# Altium schematic symbol library RFIDSchematicLibrary.SchLib: 20 symbols
Pins are listed as number, name and electrical type; pins without a type are passive.

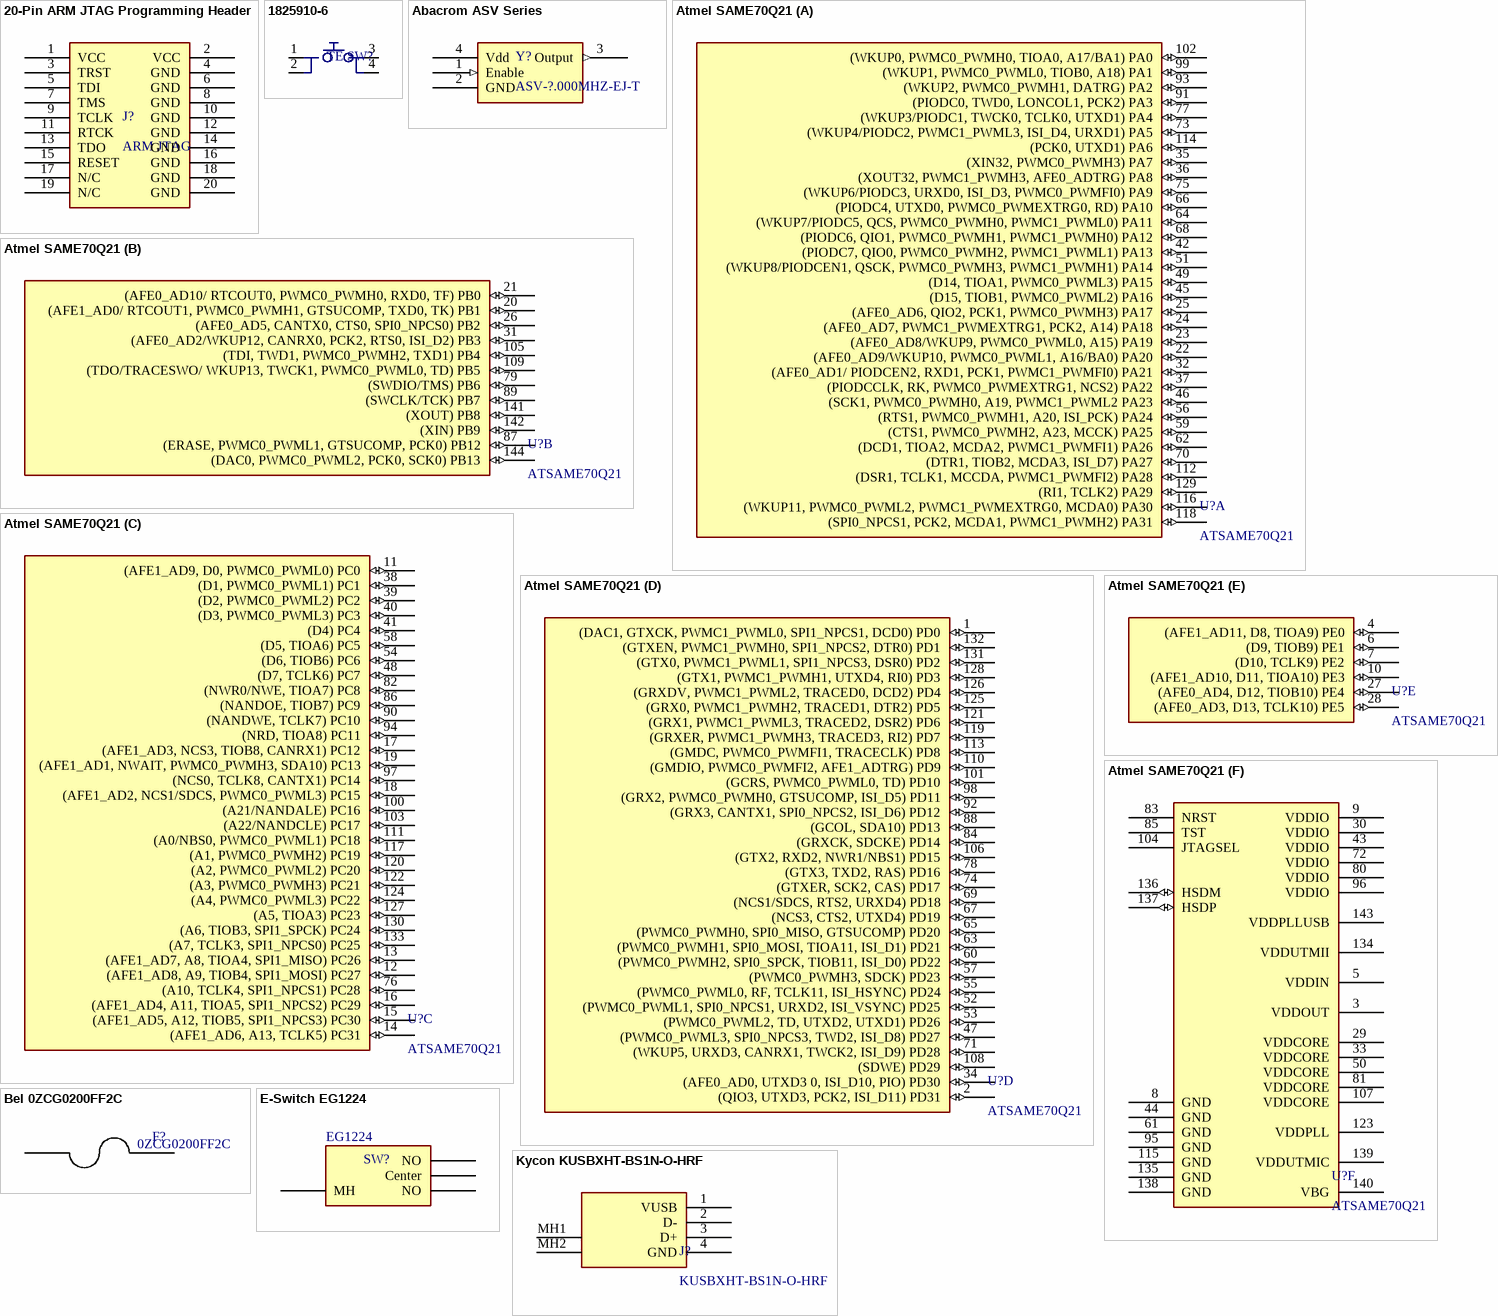
[diagram p0: symbols 20-Pin ARM JTAG Programming Header to Kycon KUSBXHT-BS1N-O-HRF]

## 20-Pin ARM JTAG Programming Header
designator J?, comment ARM JTAG
Standard 20-Pin Pinout; Manufacturer: 3M; Manufacturer Part Number: N2520-6002-UB; Connector Type: Header, Shrouded; Number of Positions: 20; Number of Positions Loaded: All; Pitch: 0.100" (2.54mm); Supplier 1: Digi-Key; RoHS: RoHS Compliant; Category: Connectors, Interconnects; Stock 1: 0; Pricing 1: 1008=2.059 (USD); Packaging: Bulk; Contact Type: Male Pin; Number of Rows: 2; Row Spacing: 0.100" (2.54mm); Contact Mating Length: 0.243" (6.17mm); Mounting Type: Through Hole; Termination: Solder; Fastening Type: -; Features: -; Contact Finish: Gold; Contact Finish Thickness: 30µin (0.76µm); Color: Black; ComponentLink1URL: http://multimedia.3m.com/mws/mediawebserver?66666UuZjcFSLXTtMXM6MxfcEVuQEcuZgVs6EVs6E666666--; ComponentLink1Description: http://multimedia.3m.com/mws/mediawebserver?66666UuZjcFSLXTtMXM6MxfcEVuQEcuZgVs6EVs6E666666--
footprint 3M 2520-6002UB (SHROUDED HEADER 20 POS STRAIGHT)
pins: 1 VCC, 2 VCC, 3 TRST, 4 GND, 5 TDI, 6 GND, 7 TMS, 8 GND, 9 TCLK, 10 GND, 11 RTCK, 12 GND, 13 TDO, 14 GND, 15 RESET, 16 GND, 17 N/C, 18 GND, 19 N/C, 20 GND

## 1825910-6
designator TE SW?  (value not drawn)
SWITCH TACTILE SPST-NO 0.05A 24V; Manufacturer: TE Connectivity Alcoswitch Switches; Switch Function: Off-Mom; Contact Rating @ Voltage: 0.05A @ 24VDC; Actuator Type: Standard; Actuator Height off PCB, from Pins: 5.00mm; Actuator Orientation: Top Actuated; Outline: 6.00mm x 6.00mm; Illumination: Non-Illuminated; Operating Force: 160gf; Actuator Material: Polybutylene Terephthalate (PBT); Switch Travel: 0.25mm; Mechanical Life: 100,000 Cycles; Supplier 1: Digi-Key; Manufacturer Part Number: 1825910-6; RoHS: RoHS Compliant; Category: Switches; Stock 1: 68158; Pricing 1: 1=0.11, 25=0.1012, 50=0.0912, 100=0.0869, 250=0.08028, 500=0.07698, 1000=0.06268, 2000=0.05609, 5000=0.05278 (USD); Packaging: Bulk; Circuit: SPST-NO; Mounting Type: Through Hole; Termination Style: PC Pin; Illumination Voltage (Nominal): -; Illumination Type, Color: -; Ingress Protection: -; Features: -; Operating Temperature: -35°C ~ 85°C; ComponentLink1URL: http://www.te.com/commerce/DocumentDelivery/DDEController?Action=srchrtrv&DocNm=1825910&DocType=Customer+Drawing&DocLang=English; ComponentLink1Description: http://www.te.com/commerce/DocumentDelivery/DDEController?Action=srchrtrv&DocNm=1825910&DocType=Customer+Drawing&DocLang=English
footprint TE 1825910-6 (SWITCH TACTILE SPST-NO 0.05A 24V)
pins: 1, 2, 3, 4

## Abacrom ASV Series
designator Y?, comment ASV-?.000MHZ-EJ-T
OSC XO X.000MHZ HCMOS SMD
footprint Abracon ASV XO (OSCILLATOR 16.000MHZ 3.3V SMD)
footprint Abracon ASV XO (OSCILLATOR 16.000MHZ 3.3V SMD)
pins: 1 Enable (in), 2 GND (power), 3 Output (out), 4 Vdd (power)

## Atmel SAME70Q21
designator U?, comment ATSAME70Q21
IC MCU 32BIT 2048KB FLASH; Manufacturer: Atmel; Manufacturer Part Number: ATSAME70Q21A-AN; Core Processor: ARM® Cortex®-M7; Core Size: 32-Bit; Speed: 300MHz; Connectivity: CAN, EBI/EMI, Ethernet, I²C, IrDA, LIN, MMC/SD/SDIO, SPI, UART/USART, USB; Peripherals: Brown-out Detect/Reset, DMA, I²S, POR, PWM, WDT; Number of I/O: 114; Program Memory Size: 2MB (2M x 8); RAM Size: 384K x 8; Voltage - Supply (Vcc/Vdd): 1.62 V ~ 3.6 V; Data Converters: A/D 24x12b, D/A 2x12b; Oscillator Type: Internal; Supplier 1: Digi-Key; RoHS: RoHS Compliant; Category: Integrated Circuits (ICs); Stock 1: 346; Pricing 1: 1=19.29, 10=17.532, 100=14.9022, 250=13.58732, 500=12.7107, 1000=12.175 (USD); Packaging: Tray; Program Memory Type: FLASH; EEPROM Size: -; Operating Temperature: -40°C ~ 105°C; Package / Case: 144-LQFP; Supplier Device Package: 144-LQFP (20x20); ComponentLink1URL: http://www.atmel.com/Images/Atmel-11296-32-bit-Cortex-M7-Microcontroller-SAM-E70Q-SAM-E70N-SAM-E70J_Datasheet.pdf; ComponentLink1Description: http://www.atmel.com/Images/Atmel-11296-32-bit-Cortex-M7-Microcontroller-SAM-E70Q-SAM-E70N-SAM-E70J_Datasheet.pdf
footprint Atmel 144AA_M (Thin QFP, 144-Leads, Body 20x20mm, Pitch 0.5mm, IPC Low Density)
part A pins: 22 (AFE0_AD9/WKUP10, PWMC0_PWML1, A16/BA0) PA20 (io), 23 (AFE0_AD8/WKUP9, PWMC0_PWML0, A15) PA19 (io), 24 (AFE0_AD7, PWMC1_PWMEXTRG1, PCK2, A14) PA18 (io), 25 (AFE0_AD6, QIO2, PCK1, PWMC0_PWMH3) PA17 (io), 32 (AFE0_AD1/ PIODCEN2, RXD1, PCK1, PWMC1_PWMFI0) PA21 (io), 35 (XIN32, PWMC0_PWMH3) PA7 (io), 36 (XOUT32, PWMC1_PWMH3, AFE0_ADTRG) PA8 (io), 37 (PIODCCLK, RK, PWMC0_PWMEXTRG1, NCS2) PA22 (io), 42 (PIODC7, QIO0, PWMC0_PWMH2, PWMC1_PWML1) PA13 (io), 45 (D15, TIOB1, PWMC0_PWML2) PA16 (io), 46 (SCK1, PWMC0_PWMH0, A19, PWMC1_PWML2 PA23 (io), 49 (D14, TIOA1, PWMC0_PWML3) PA15 (io), 51 (WKUP8/PIODCEN1, QSCK, PWMC0_PWMH3, PWMC1_PWMH1) PA14 (io), 56 (RTS1, PWMC0_PWMH1, A20, ISI_PCK) PA24 (io), 59 (CTS1, PWMC0_PWMH2, A23, MCCK) PA25 (io), 62 (DCD1, TIOA2, MCDA2, PWMC1_PWMFI1) PA26 (io), 64 (WKUP7/PIODC5, QCS, PWMC0_PWMH0, PWMC1_PWML0) PA11 (io), 66 (PIODC4, UTXD0, PWMC0_PWMEXTRG0, RD) PA10 (io), 68 (PIODC6, QIO1, PWMC0_PWMH1, PWMC1_PWMH0) PA12 (io), 70 (DTR1, TIOB2, MCDA3, ISI_D7) PA27 (io), 73 (WKUP4/PIODC2, PWMC1_PWML3, ISI_D4, URXD1) PA5 (io), 75 (WKUP6/PIODC3, URXD0, ISI_D3, PWMC0_PWMFI0) PA9 (io), 77 (WKUP3/PIODC1, TWCK0, TCLK0, UTXD1) PA4 (io), 91 (PIODC0, TWD0, LONCOL1, PCK2) PA3 (io), 93 (WKUP2, PWMC0_PWMH1, DATRG) PA2 (io), 99 (WKUP1, PWMC0_PWML0, TIOB0, A18) PA1 (io), 102 (WKUP0, PWMC0_PWMH0, TIOA0, A17/BA1) PA0 (io), 112 (DSR1, TCLK1, MCCDA, PWMC1_PWMFI2) PA28 (io), 114 (PCK0, UTXD1) PA6 (io), 116 (WKUP11, PWMC0_PWML2, PWMC1_PWMEXTRG0, MCDA0) PA30 (io), 118 (SPI0_NPCS1, PCK2, MCDA1, PWMC1_PWMH2) PA31 (io), 129 (RI1, TCLK2) PA29 (io)
part B pins: 20 (AFE1_AD0/ RTCOUT1, PWMC0_PWMH1, GTSUCOMP, TXD0, TK) PB1 (io), 21 (AFE0_AD10/ RTCOUT0, PWMC0_PWMH0, RXD0, TF) PB0 (io), 26 (AFE0_AD5, CANTX0, CTS0, SPI0_NPCS0) PB2 (io), 31 (AFE0_AD2/WKUP12, CANRX0, PCK2, RTS0, ISI_D2) PB3 (io), 79 (SWDIO/TMS) PB6 (io), 87 (ERASE, PWMC0_PWML1, GTSUCOMP, PCK0) PB12 (io), 89 (SWCLK/TCK) PB7 (io), 105 (TDI, TWD1, PWMC0_PWMH2, TXD1) PB4 (io), 109 (TDO/TRACESWO/ WKUP13, TWCK1, PWMC0_PWML0, TD) PB5 (io), 141 (XOUT) PB8 (io), 142 (XIN) PB9 (io), 144 (DAC0, PWMC0_PWML2, PCK0, SCK0) PB13 (io)
part C pins: 11 (AFE1_AD9, D0, PWMC0_PWML0) PC0 (io), 12 (AFE1_AD8, A9, TIOB4, SPI1_MOSI) PC27 (io), 13 (AFE1_AD7, A8, TIOA4, SPI1_MISO) PC26 (io), 14 (AFE1_AD6, A13, TCLK5) PC31 (io), 15 (AFE1_AD5, A12, TIOB5, SPI1_NPCS3) PC30 (io), 16 (AFE1_AD4, A11, TIOA5, SPI1_NPCS2) PC29 (io), 17 (AFE1_AD3, NCS3, TIOB8, CANRX1) PC12 (io), 18 (AFE1_AD2, NCS1/SDCS, PWMC0_PWML3) PC15 (io), 19 (AFE1_AD1, NWAIT, PWMC0_PWMH3, SDA10) PC13 (io), 38 (D1, PWMC0_PWML1) PC1 (io), 39 (D2, PWMC0_PWML2) PC2 (io), 40 (D3, PWMC0_PWML3) PC3 (io), 41 (D4) PC4 (io), 48 (D7, TCLK6) PC7 (io), 54 (D6, TIOB6) PC6 (io), 58 (D5, TIOA6) PC5 (io), 76 (A10, TCLK4, SPI1_NPCS1) PC28 (io), 82 (NWR0/NWE, TIOA7) PC8 (io), 86 (NANDOE, TIOB7) PC9 (io), 90 (NANDWE, TCLK7) PC10 (io), 94 (NRD, TIOA8) PC11 (io), 97 (NCS0, TCLK8, CANTX1) PC14 (io), 100 (A21/NANDALE) PC16 (io), 103 (A22/NANDCLE) PC17 (io), 111 (A0/NBS0, PWMC0_PWML1) PC18 (io), 117 (A1, PWMC0_PWMH2) PC19 (io), 120 (A2, PWMC0_PWML2) PC20 (io), 122 (A3, PWMC0_PWMH3) PC21 (io), 124 (A4, PWMC0_PWML3) PC22 (io), 127 (A5, TIOA3) PC23 (io), 130 (A6, TIOB3, SPI1_SPCK) PC24 (io), 133 (A7, TCLK3, SPI1_NPCS0) PC25 (io)
part D pins: 1 (DAC1, GTXCK, PWMC1_PWML0, SPI1_NPCS1, DCD0) PD0 (io), 2 (QIO3, UTXD3, PCK2, ISI_D11) PD31 (io), 34 (AFE0_AD0, UTXD3 0, ISI_D10, PIO) PD30 (io), 47 (PWMC0_PWML3, SPI0_NPCS3, TWD2, ISI_D8) PD27 (io), 52 (PWMC0_PWML1, SPI0_NPCS1, URXD2, ISI_VSYNC) PD25 (io), 53 (PWMC0_PWML2, TD, UTXD2, UTXD1) PD26 (io), 55 (PWMC0_PWML0, RF, TCLK11, ISI_HSYNC) PD24 (io), 57 (PWMC0_PWMH3, SDCK) PD23 (io), 60 (PWMC0_PWMH2, SPI0_SPCK, TIOB11, ISI_D0) PD22 (io), 63 (PWMC0_PWMH1, SPI0_MOSI, TIOA11, ISI_D1) PD21 (io), 65 (PWMC0_PWMH0, SPI0_MISO, GTSUCOMP) PD20 (io), 67 (NCS3, CTS2, UTXD4) PD19 (io), 69 (NCS1/SDCS, RTS2, URXD4) PD18 (io), 71 (WKUP5, URXD3, CANRX1, TWCK2, ISI_D9) PD28 (io), 74 (GTXER, SCK2, CAS) PD17 (io), 78 (GTX3, TXD2, RAS) PD16 (io), 84 (GRXCK, SDCKE) PD14 (io), 88 (GCOL, SDA10) PD13 (io), 92 (GRX3, CANTX1, SPI0_NPCS2, ISI_D6) PD12 (io), 98 (GRX2, PWMC0_PWMH0, GTSUCOMP, ISI_D5) PD11 (io), 101 (GCRS, PWMC0_PWML0, TD) PD10 (io), 106 (GTX2, RXD2, NWR1/NBS1) PD15 (io), 108 (SDWE) PD29 (io), 110 (GMDIO, PWMC0_PWMFI2, AFE1_ADTRG) PD9 (io), 113 (GMDC, PWMC0_PWMFI1, TRACECLK) PD8 (io), 119 (GRXER, PWMC1_PWMH3, TRACED3, RI2) PD7 (io), 121 (GRX1, PWMC1_PWML3, TRACED2, DSR2) PD6 (io), 125 (GRX0, PWMC1_PWMH2, TRACED1, DTR2) PD5 (io), 126 (GRXDV, PWMC1_PWML2, TRACED0, DCD2) PD4 (io), 128 (GTX1, PWMC1_PWMH1, UTXD4, RI0) PD3 (io), 131 (GTX0, PWMC1_PWML1, SPI1_NPCS3, DSR0) PD2 (io), 132 (GTXEN, PWMC1_PWMH0, SPI1_NPCS2, DTR0) PD1 (io)
part E pins: 4 (AFE1_AD11, D8, TIOA9) PE0 (io), 6 (D9, TIOB9) PE1 (io), 7 (D10, TCLK9) PE2 (io), 10 (AFE1_AD10, D11, TIOA10) PE3 (io), 27 (AFE0_AD4, D12, TIOB10) PE4 (io), 28 (AFE0_AD3, D13, TCLK10) PE5 (io)
part F pins: 3 VDDOUT (power), 5 VDDIN (power), 8 GND (power), 9 VDDIO (power), 29 VDDCORE (power), 30 VDDIO (power), 33 VDDCORE (power), 43 VDDIO (power), 44 GND (power), 50 VDDCORE (power), 61 GND (power), 72 VDDIO (power), 80 VDDIO (power), 81 VDDCORE (power), 83 NRST (power), 85 TST (power), 95 GND (power), 96 VDDIO (power), 104 JTAGSEL (power), 107 VDDCORE (power), 115 GND (power), 123 VDDPLL (power), 134 VDDUTMII (power), 135 GND (power), 136 HSDM (io), 137 HSDP (io), 138 GND (power), 139 VDDUTMIC (power), 140 VBG (power), 143 VDDPLLUSB (power)

## Bel 0ZCG0200FF2C
designator F?  Manufacturer Part Number: 0ZCG0200FF2C  (hidden comment: *)
PTC RESTTBLE 2.0A 8V CHIP 1812; Manufacturer: Bel Fuse Inc.; Current - Max: 100A; Current - Hold (Ih) (Max): 2A; Current - Trip (It): 3.5A; R Min/Max: 0.020 ~ 0.070 Ohm; Time to Trip: 2s; Supplier 1: Digi-Key; RoHS: RoHS Compliant; Category: Circuit Protection; Stock 1: 4721; Pricing 1: 1=0.18, 10=0.169, 25=0.156, 100=0.1401, 250=0.12476, 500=0.10396, 1000=0.09851 (USD); Packaging: Cut Tape (CT); Voltage - Max: 8V; Package / Case: 1812 (4532 Metric), Concave; ComponentLink1URL: http://www.belfuse.com/pdfs/0ZCG.pdf; ComponentLink1Description: http://www.belfuse.com/pdfs/0ZCG.pdf; Supplier Part Number 1: 507-1777-1-ND
footprint C1812(4532)_NP_med (Chip Capacitor, 2-Leads, Body 4.5x3.2mm, IPC Medium Density)
pins: 1, 2

## E-Switch EG1224
designator SW?  Manufacturer Part Number: EG1224  (hidden comment: E-Switch EG1224)
SWITCH SLIDE SPDT 500MA 15V; Contact Timing: Non-Shorting (BBM); Switch Function: On-On; Current Rating: 500mA (DC); Actuator Type: Standard; Actuator Length: 8.50mm; Switch Travel: 4.00mm; Operating Force: 250gf; Supplier 1: Digi-Key; Manufacturer: E-Switch; RoHS: RoHS Compliant; Category: Switches; Stock 1: 3595; Pricing 1: 1=0.73, 10=0.698, 25=0.684, 50=0.6112, 100=0.582, 250=0.56744, 500=0.48016, 1000=0.4656 (USD); Packaging: Bulk; Circuit: SPDT; Voltage Rating - AC: -; Voltage Rating - DC: 15V; Contact Material: Copper Alloy; Contact Finish: Silver; Mounting Type: Through Hole, Right Angle; Termination Style: PC Pin; Features: -; Actuator Material: -; Operating Temperature: -20°C ~ 70°C; Mechanical Life: -; Electrical Life: -; ComponentLink1URL: http://spec_sheets.e-switch.com/specs/P040042.pdf; ComponentLink1Description: http://spec_sheets.e-switch.com/specs/P040042.pdf; Supplier Part Number 1: EG2585-ND
footprint E-Switch EG1224 (SWITCH SLIDE SPDT 500MA 15V)
pins: 1 NO, 2 Center, 3 NO, 4 MH

## Kycon KUSBXHT-BS1N-O-HRF
designator J?, comment KUSBXHT-BS1N-O-HRF
TYPE B ORANGE HIGH TEMP/RETENTION; Manufacturer: Kycon; Connector Type: USB Type B Receptacle; Current Rating: 1 A; Gender: Female; Mounting Angle: Right; Number of Contacts: 4 Contact; Voltage Rating: 30 VAC; Number of Ports: 1 Port; Insulation Resistance: 1000 MOhms; Supplier 1: Mouser; Manufacturer Part Number: KUSBXHT-BS1N-O-HRF; RoHS: RoHS Compliant; Category: USB Connectors; Stock 1: 2882; Pricing 1: 1=2.06, 25=1.73, 100=1.51, 500=1.34, 1000=1.20, 5000=1.11, 10000=1.02 (USD); Color: Orange; Contact Plating: Gold; Operating Temperature Range: - 25 C to + 80 C; Packaging: Tray; Product: USB Type B Connectors; Series: KUSBXHT; Termination Style: Solder; Brand: Kycon; Contact Material: Phosphor Bronze; Flammability Rating: UL 94 V-0; Insulator Color: Orange; Product Category: USB Connectors; Standard: USB; Standard Pack Qty: 36; RoHS - Mouser: Y; Minimum Order Quantity: 1; Reeling: False; ComponentLink1URL: http://www.mouser.com/ds/2/222/KUSBX-371999.pdf; ComponentLink1Description: http://www.mouser.com/ds/2/222/KUSBX-371999.pdf
footprint Kycon KUSBXHT-BS1N-O-HRF (CONN USB RECEPT R/A TYPE B 4POS)
pins: 1 VUSB, 2 D-, 3 D+, 4 GND, MH1, MH2

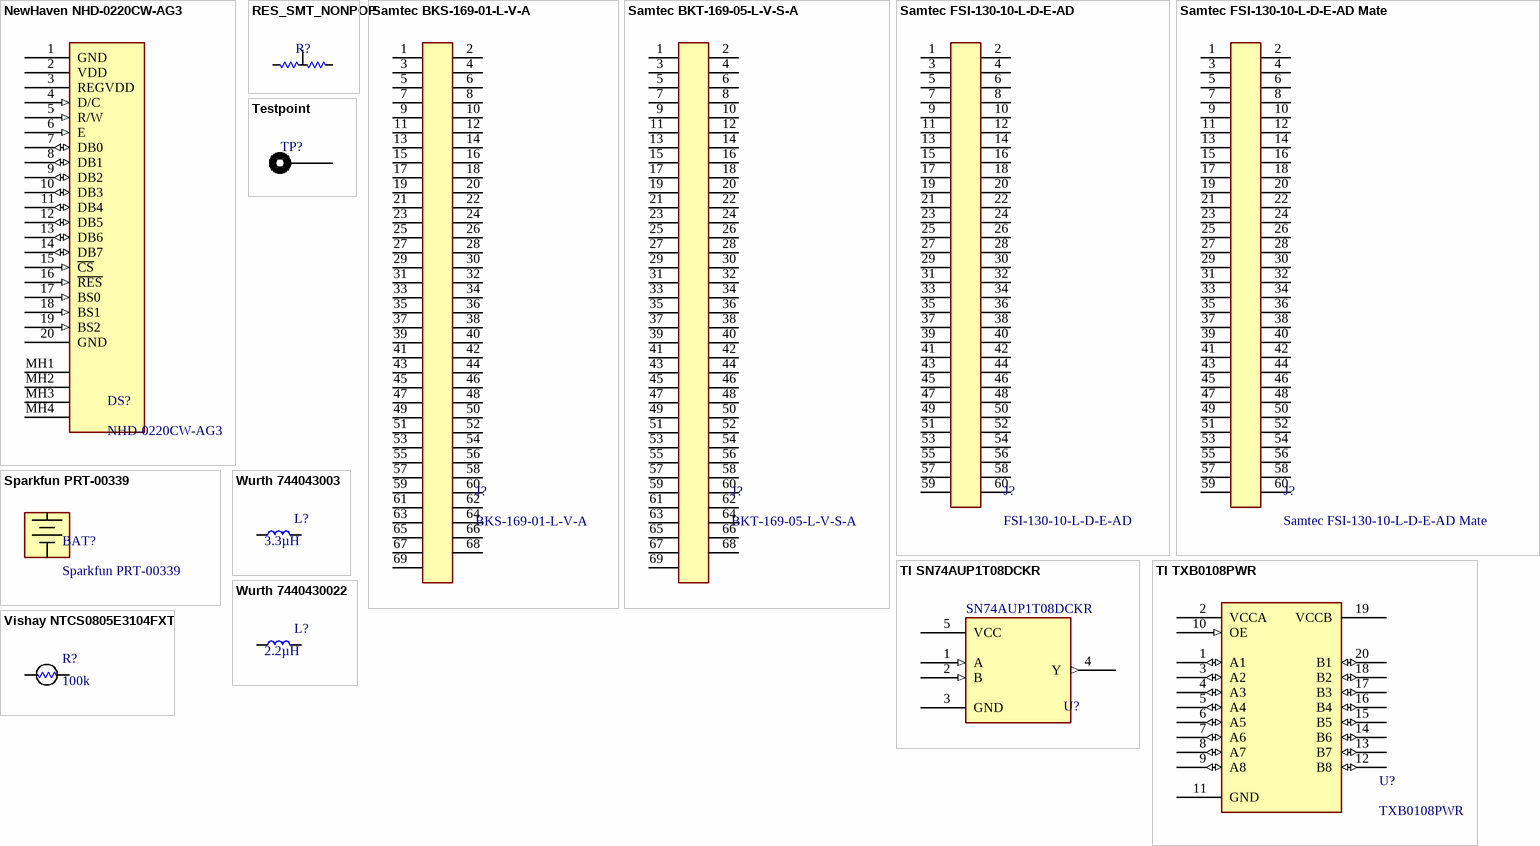
[diagram p1: symbols NewHaven NHD-0220CW-AG3 to Wurth 7440430022]

## NewHaven NHD-0220CW-AG3
designator DS?, comment NHD-0220CW-AG3
Slim Character OLED. 2 lines x 20 character Green OLED display. 2.8V or 5V power. 4/8-bit Parallel, SPI, or I2C MPU interface. 3 built-in font tables. Double height characters.; Manufacturer: Newhaven Display Intl; Number of Characters: 40; Display Format: 20 x 2; Character Format: 5 x 8 Dots; Display Mode: Passive; Character Size: 5.57mm H x 3.22mm W; Outline L x W x H: 92.00mm x 23.30mm x 2.50mm; Viewing Area: 77.92mm L x 16.28mm W; Voltage - Supply: 2.4 V ~ 5.5 V; Dot Size: 0.62mm W x 0.67mm H; Interface: Parallel, 8-Bit, I²C, SPI; Background Color: Black; Supplier 1: Digi-Key; Manufacturer Part Number: NHD-0220CW-AG3; RoHS: RoHS Compliant; Category: Optoelectronics; Stock 1: 82; Pricing 1: 1=27.5, 5=25.85, 10=24.2, 50=22.83, 100=21.73, 250=20.62996, 500=19.8 (USD); Display Type: OLED; Backlight: -; Operating Temperature: -40°C ~ 85°C; Text Color: Green; ComponentLink1URL: http://www.newhavendisplay.com/specs/NHD-0220CW-AG3.pdf; ComponentLink1Description: http://www.newhavendisplay.com/specs/NHD-0220CW-AG3.pdf; Supplier Part Number 1: NHD-0220CW-AG3-ND
footprint Newhaven NHD-0220CW-AG3 (Slim Character OLED. 2 lines x 20 character Green OLED display. 2.8V or 5V power. 4/8-bit Parallel, SPI, or I2C MPU interface. 3 built-in font tables. Double height characters.)
pins: 1 GND (power), 2 VDD (power), 3 REGVDD (power), 4 D/C (in), 5 R/W (in), 6 E (in), 7 DB0 (io), 8 DB1 (io), 9 DB2 (io), 10 DB3 (io), 11 DB4 (io), 12 DB5 (io), 13 DB6 (io), 14 DB7 (io), 15 ~{CS} (in), 16 ~{RES} (in), 17 BS0 (in), 18 BS1 (in), 19 BS2 (in), 20 GND (power), MH1, MH2, MH3, MH4

## RES_SMT_NONPOP
designator R?, comment 0  (value not drawn)
SMT resistor; Tolerance: 1%; Value: 0
footprint R0805(2012)_med_double (Chip Resistor, 2-Leads, Body 2.0x1.3mm, IPC Medium Density)
pins: 1, 2, 3

## Samtec BKS-169-01-L-V-A
designator J?, comment BKS-169-01-L-V-A
CONN HDR 69POS 1MM SMD GLD
footprint SAMTEC BKS-169-01-L-V-A (Polarized Micro Socket)
pins: 1, 2, 3, 4, 5, 6, 7, 8, 9, 10, 11, 12, 13, 14, 15, 16, 17, 18, 19, 20, 21, 22, 23, 24, 25, 26, 27, 28, 29, 30, 31, 32, 33, 34, 35, 36, 37, 38, 39, 40, 41, 42, 43, 44, 45, 46, 47, 48, 49, 50, 51, 52, 53, 54, 55, 56, 57, 58, 59, 60, 61, 62, 63, 64, 65, 66, 67, 68, 69

## Samtec BKT-169-05-L-V-S-A
designator J?, comment BKT-169-05-L-V-S-A
CONN HDR 69POS 1MM SMD GLD
footprint SAMTEC BKT-169-05-L-V-S-A (Polarized Micro Header)
pins: 1, 2, 3, 4, 5, 6, 7, 8, 9, 10, 11, 12, 13, 14, 15, 16, 17, 18, 19, 20, 21, 22, 23, 24, 25, 26, 27, 28, 29, 30, 31, 32, 33, 34, 35, 36, 37, 38, 39, 40, 41, 42, 43, 44, 45, 46, 47, 48, 49, 50, 51, 52, 53, 54, 55, 56, 57, 58, 59, 60, 61, 62, 63, 64, 65, 66, 67, 68, 69

## Samtec FSI-130-10-L-D-E-AD
designator J?, comment FSI-130-10-L-D-E-AD
CONN INTERFACE ONE PC 1MM 60POS; Manufacturer: Samtec Inc.; Connector Type: Stacking Compression; Number of Positions: 60; Pitch: 0.039" (1.00mm); Supplier 1: Digi-Key; Manufacturer Part Number: FSI-130-10-L-D-E-AD; RoHS: RoHS Compliant; Category: Connectors, Interconnects; Stock 1: 0; Pricing 1: 1=9.82 (USD); Packaging: Bulk; Number of Rows: 2; Mounting Type: Surface Mount; Features: Board Guide; Contact Finish: Gold; Contact Finish Thickness: 10µin (0.25µm); Mated Stacking Heights: -; Height Above Board: 0.394" (10.00mm); ComponentLink1URL: http://suddendocs.samtec.com/prints/fsi-1xx-xx-xxx-d-x-xx-xx-mkt.pdf; ComponentLink1Description: http://suddendocs.samtec.com/prints/fsi-1xx-xx-xxx-d-x-xx-xx-mkt.pdf; Supplier Part Number 1: SAM8060-ND
footprint FSI-130-10-L-D-E-AD (CONN INTERFACE ONE PC 1MM 60POS)
pins: 1, 2, 3, 4, 5, 6, 7, 8, 9, 10, 11, 12, 13, 14, 15, 16, 17, 18, 19, 20, 21, 22, 23, 24, 25, 26, 27, 28, 29, 30, 31, 32, 33, 34, 35, 36, 37, 38, 39, 40, 41, 42, 43, 44, 45, 46, 47, 48, 49, 50, 51, 52, 53, 54, 55, 56, 57, 58, 59, 60

## Samtec FSI-130-10-L-D-E-AD Mate
designator J?  (no BOM)
CONN INTERFACE ONE PC 1MM 60POS
footprint FSI-130-10-L-D-E-AD - Mate (CONN INTERFACE ONE PC 1MM 60POS)
pins: 1, 2, 3, 4, 5, 6, 7, 8, 9, 10, 11, 12, 13, 14, 15, 16, 17, 18, 19, 20, 21, 22, 23, 24, 25, 26, 27, 28, 29, 30, 31, 32, 33, 34, 35, 36, 37, 38, 39, 40, 41, 42, 43, 44, 45, 46, 47, 48, 49, 50, 51, 52, 53, 54, 55, 56, 57, 58, 59, 60

## Sparkfun PRT-00339
designator BAT?
Polymer Lithium Ion Battery - 1000mAh
footprint LiPo Battery - 1000mA (Polymer Lithium Ion Battery - 1000mAh)

## Testpoint
designator TP?  (value not drawn)
A single hole in the board
footprint TESTPOINT (Testpoint, Keystone, Multipurpose .063)
footprint 4-40 HOLE (A hole)
footprint 6-32 Hole (A hole)
pins: 1

## TI SN74AUP1T08DCKR
designator U?  Manufacturer Part Number: SN74AUP1T08DCKR  (hidden comment: *)
IC GATE AND 1CH 2-INP SC-70-5; Manufacturer: Texas Instruments; Logic Type: AND Gate; Number of Circuits: 1; Number of Inputs: 2; Voltage - Supply: 2.3 V ~ 3.6 V; Current - Quiescent (Max): 0.5µA; Current - Output High, Low: 4mA, 4mA; Logic Level - Low: 0.35 V ~ 0.5 V; Logic Level - High: 1.1 V ~ 1.19 V; Max Propagation Delay @ V, Max CL: 4.4ns @ 3.3V, 30pF; Supplier 1: Digi-Key; RoHS: RoHS Compliant; Category: Integrated Circuits (ICs); Stock 1: 3783; Pricing 1: 1=0.36, 10=0.29, 100=0.198, 500=0.1482, 1000=0.111 (USD); Packaging: Cut Tape (CT); Features: Schmitt Trigger; Operating Temperature: -40°C ~ 85°C; Mounting Type: Surface Mount; Supplier Device Package: SC-70-5; Package / Case: 5-TSSOP, SC-70-5, SOT-353; ComponentLink1URL: http://www.ti.com/lit/ds/symlink/sn74aup1t08.pdf; ComponentLink1Description: http://www.ti.com/lit/ds/symlink/sn74aup1t08.pdf; Supplier Part Number 1: 296-27391-1-ND
footprint TI 5 Pin DCK (R-PDSO-G5) (Texas Instruments 20 Pin PW Package (0.65mm pitch, 4.4mm width,)
pins: 1 A (in), 2 B (in), 3 GND (power), 4 Y (out), 5 VCC (power)

## TI TXB0108PWR
designator U?, comment TXB0108PWR
IC 8-BIT TRNSTR 15KV ESD 20TSSOP; Manufacturer: Texas Instruments; Translator Type: Voltage Level; Channel Type: Bidirectional; Number of Circuits: 1; Channels per Circuit: 8; Voltage - VCCA: 1.2 V ~ 3.6 V; Voltage - VCCB: 1.65 V ~ 5.5 V; Output Type: Tri-State, Non-Inverted; Data Rate: 100Mbps; Supplier 1: Digi-Key; Manufacturer Part Number: TXB0108PWR; RoHS: RoHS Compliant; Category: Integrated Circuits (ICs); Stock 1: 25140; Pricing 1: 1=1.88, 10=1.693, 100=1.3578, 500=1.116, 1000=0.775 (USD); Packaging: Cut Tape (CT); Input Signal: -; Output Signal: -; Operating Temperature: -40°C ~ 85°C (TA); Features: Auto-Direction Sensing; Mounting Type: Surface Mount; Package / Case: 20-TSSOP (0.173", 4.40mm Width); Supplier Device Package: 20-TSSOP; ComponentLink1URL: http://www.ti.com/lit/ds/symlink/txb0108.pdf; ComponentLink1Description: http://www.ti.com/lit/ds/symlink/txb0108.pdf
footprint TI 20 Pin PW (R-PDSO-G20) (Texas Instruments 20 Pin PW Package (0.65mm pitch, 4.4mm width,)
pins: 1 A1 (io), 2 VCCA (power), 3 A2 (io), 4 A3 (io), 5 A4 (io), 6 A5 (io), 7 A6 (io), 8 A7 (io), 9 A8 (io), 10 OE (in), 11 GND (power), 12 B8 (io), 13 B7 (io), 14 B6 (io), 15 B5 (io), 16 B4 (io), 17 B3 (io), 18 B2 (io), 19 VCCB (power), 20 B1 (io)

## Vishay NTCS0805E3104FXT
designator R?  Resistance in Ohms @ 25°C: 100k  (hidden comment: *)
THERMISTOR NTC 100K OHM 1% 0805; Manufacturer: Vishay BC Components; Manufacturer Part Number: NTCS0805E3104FXT; B25/85: 4100K; Power - Max: 210mW; Supplier 1: Digi-Key; RoHS: RoHS Compliant; Category: Sensors, Transducers; Stock 1: 17485; Pricing 1: 1=0.6, 10=0.409, 50=0.385, 100=0.3429, 250=0.33684, 500=0.3188, 1000=0.30677 (USD); Packaging: Cut Tape (CT); Resistance Tolerance: ±1%; B Value Tolerance: ±1%; B0/50: -; B25/50: -; B25/75: -; B25/100: -; Operating Temperature: -40°C ~ 150°C; Length - Lead Wire: -; Mounting Type: Surface Mount; Package / Case: 0805 (2012 Metric); ComponentLink1URL: http://www.vishay.com/docs/29044/ntcs0805e3t.pdf; ComponentLink1Description: http://www.vishay.com/docs/29044/ntcs0805e3t.pdf; Supplier Part Number 1: BC2562CT-ND
footprint R0805(2012)_med (Chip Resistor, 2-Leads, Body 2.0x1.3mm, IPC Medium Density)
pins: 1, 2

## Wurth 744043003
designator L?  Inductance: 3.3µH  (hidden comment: *)
FIXED IND 3.3UH 2.15A 35 MOHM; Manufacturer: Wurth Electronics Inc; Manufacturer Part Number: 744043003; Type: Wirewound; Material - Core: Ferrite; Tolerance: ±30%; Current - Saturation: 1.8A; Shielding: Shielded; DC Resistance (DCR): 35 mOhm Max; Frequency - Self Resonant: 80MHz; Frequency - Test: 100kHz; Supplier 1: Digi-Key; RoHS: RoHS Compliant; Category: Inductors, Coils, Chokes; Stock 1: 3734; Pricing 1: 1=1.63, 10=1.55, 50=1.4726, 100=1.3563, 250=1.27876 (USD); Packaging: Cut Tape (CT); Current Rating: 2.15A; Q @ Freq: -; Ratings: -; Operating Temperature: -40°C ~ 125°C; Mounting Type: Surface Mount; Package / Case: 1919 (4848 Metric); Size / Dimension: 0.189" L x 0.189" W (4.80mm x 4.80mm); Height - Seated (Max): 0.118" (3.00mm); ComponentLink1URL: http://katalog.we-online.de/pbs/datasheet/744043003.pdf; ComponentLink1Description: http://katalog.we-online.de/pbs/datasheet/744043003.pdf; Supplier Part Number 1: 732-1097-1-ND
footprint WURTH WE-TPC 4828 (Standard-ish 1919 SMT Package)
pins: 1, 2

## Wurth 7440430022
designator L?  Inductance: 2.2µH  (hidden comment: *)
FIXED IND 2.2UH 2.5A 28 MOHM SMD; Manufacturer: Wurth Electronics Inc; Manufacturer Part Number: 7440430022; Type: Wirewound; Material - Core: Ferrite; Tolerance: ±30%; Current - Saturation: 2.35A; Shielding: Shielded; DC Resistance (DCR): 28 mOhm Max; Frequency - Self Resonant: 100MHz; Frequency - Test: 100kHz; Supplier 1: Digi-Key; RoHS: RoHS Compliant; Category: Inductors, Coils, Chokes; Stock 1: 12343; Pricing 1: 1=1.63, 10=1.55, 50=1.4726, 100=1.3563, 250=1.27876 (USD); Packaging: Cut Tape (CT); Current Rating: 2.5A; Q @ Freq: -; Ratings: -; Operating Temperature: -40°C ~ 125°C; Mounting Type: Surface Mount; Package / Case: 1919 (4848 Metric); Size / Dimension: 0.189" L x 0.189" W (4.80mm x 4.80mm); Height - Seated (Max): 0.118" (3.00mm); ComponentLink1URL: http://katalog.we-online.de/pbs/datasheet/7440430022.pdf; ComponentLink1Description: http://katalog.we-online.de/pbs/datasheet/7440430022.pdf; Supplier Part Number 1: 732-1095-1-ND
footprint WURTH WE-TPC 4828 (Standard-ish 1919 SMT Package)
pins: 1, 2